# EAGLE library part LM2678SX-5.0/NOPB (library LM2678SX-5.0_NOPB)
SIMPLE SWITCHE High Efficiency 5A Step-Down Voltage egulator 7-DDPAK/TO-263 -40 to 125
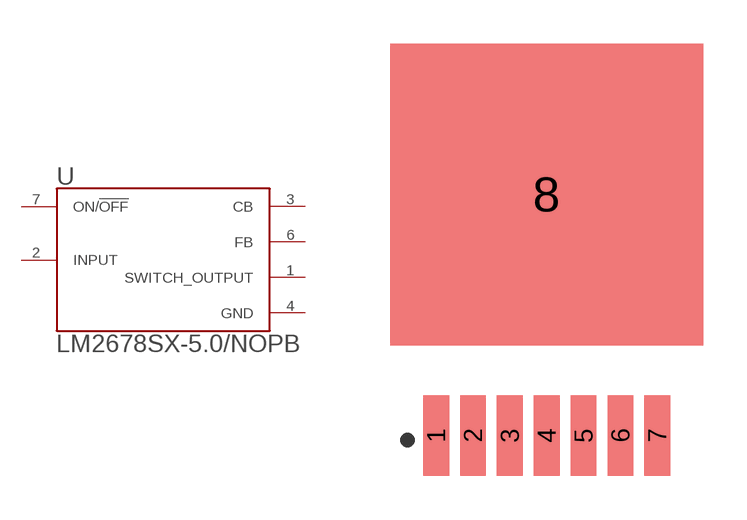
[diagram p0: symbol with the pads of TO127P1435X464-7; footprint TO127P1435X464-7]

Designator prefix U

## LM2678SX-5.0/NOPB (Description: SIMPLE SWITCHER 8V to 40V, 5A High Efficiency Step-Down DC/DC Switching Regulator 7-DDPAK/TO-263 -40 to 125; Digi-Key_Part_Number: LM2678SX-5.0/NOPBCT-ND; Digi-Key_Purchase_URL: https://www.digikey.com/product-detail/en/texas-instruments/LM2678SX-5.0-NOPB/LM2678SX-5.0-NOPBCT-ND/3526905?utm_source=snapeda&utm_medium=aggregator&utm_campaign=symbol; MF: Texas Instruments; MP: LM2678SX-5.0/NOPB; Package: TO-263-7 Texas Instruments)  [TO127P1435X464-7]
1  SWITCH_OUTPUT  out
2  INPUT  pwr
3  CB  pas
4  GND  pwr
6  FB  in
7  ON/!OFF  in

## Footprint TO127P1435X464-7 (pad centres in mm)
smd 0.89 x 2.79: 1 -3.81,-6.19; 2 -2.54,-6.19; 3 -1.27,-6.19; 4 0,-6.19; 5 1.27,-6.19; 6 2.54,-6.19; 7 3.81,-6.19
smd 10.8 x 10.41: 8 0,2.13